# EAGLE library part ZR_S7B-ZR (library CASE-JST)
JST ZR Connector, through hole, 7 pin, side entry Description: JST ZR connector with 1.5 mm pitch, through hole version, 7 pin, side entry. Links: Datasheet <http://www.jst-mfg.com/product/pdf/eng/eZH.pdf>
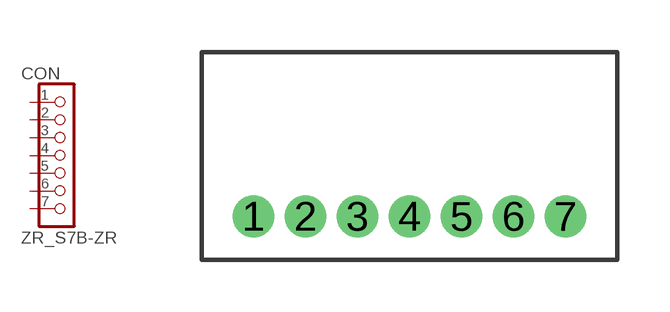
[diagram p9: symbol with the pads of S7B-ZR; footprint S7B-ZR]

Designator prefix CON

## ZR_S7B-ZR  [S7B-ZR]
1  1  pas
2  2  pas
3  3  pas
4  4  pas
5  5  pas
6  6  pas
7  7  pas

## Footprint S7B-ZR (pad centres in mm)
JST S7B-ZR Datasheet <http://www.jst-mfg.com/product/pdf/eng/eZH.pdf>
drill 0.7: 1 -4.5,0; 2 -3,0; 3 -1.5,0; 4 0,0; 5 1.5,0; 6 3,0; 7 4.5,0